# EAGLE library part MOLEX-7 (library Molex_2)
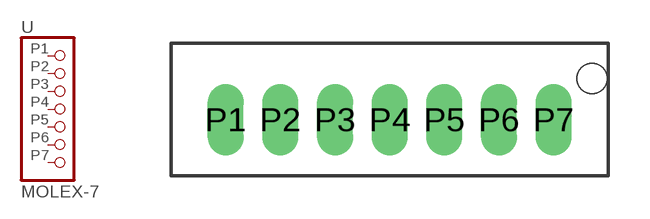
[diagram p1: symbol with the pads of MOLEX-7; footprint MOLEX-7]

Designator prefix -

## MOLEX-7  [MOLEX-7]
P1  1  pas
P2  2  pas
P3  3  pas
P4  4  pas
P5  5  pas
P6  6  pas
P7  7  pas

## Footprint MOLEX-7 (pad centres in mm)
drill 0.8 pad 1.2 long: P1 -10,0; P2 -8,0; P3 -6,0; P4 -4,0; P5 -2,0; P6 0,0; P7 2,0
hole 1.1 at 3.4,1.5